# EAGLE library part RREXTENSION-MALE (library RoboRioConnector)
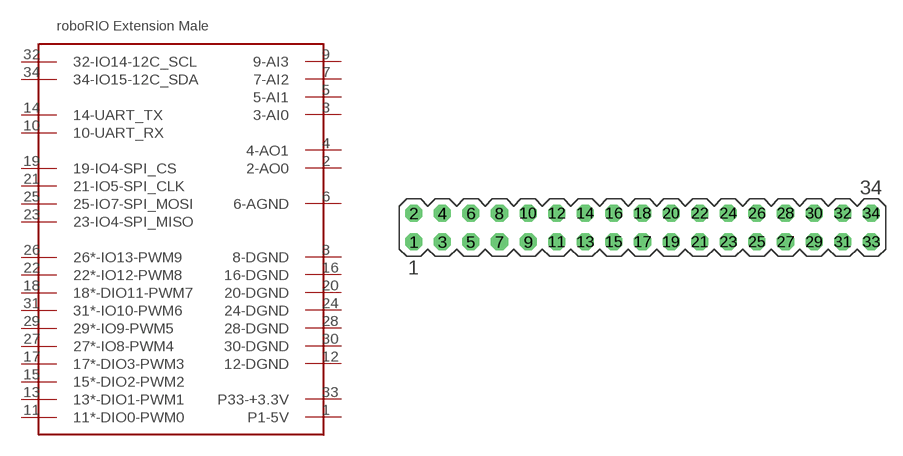
[diagram p1: symbol with the pads of RREXT-MALE; footprint RREXT-MALE]

Designator prefix -

## RREXTENSION-MALE  [RREXT-MALE]
1  P1-5V
2  2-AO0
3  3-AI0
4  4-AO1
5  5-AI1
6  6-AGND
7  7-AI2
8  8-DGND
9  9-AI3
10  10-UART_RX
11  11*-DIO0-PWM0
12  12-DGND
13  13*-DIO1-PWM1
14  14-UART_TX
15  15*-DIO2-PWM2
16  16-DGND
17  17*-DIO3-PWM3
18  18*-DIO11-PWM7
19  19-IO4-SPI_CS
20  20-DGND
21  21-IO5-SPI_CLK
22  22*-IO12-PWM8
23  23-IO4-SPI_MISO
24  24-DGND
25  25-IO7-SPI_MOSI
26  26*-IO13-PWM9
27  27*-IO8-PWM4
28  28-DGND
29  29*-IO9-PWM5
30  30-DGND
31  31*-IO10-PWM6
32  32-IO14-12C_SCL
33  P33-+3.3V
34  34-IO15-12C_SDA

## Footprint RREXT-MALE (pad centres in mm)
PIN HEADER
drill 1.016 octagon: 1 -20.32,-1.27; 2 -20.32,1.27; 3 -17.78,-1.27; 4 -17.78,1.27; 5 -15.24,-1.27; 6 -15.24,1.27; 7 -12.7,-1.27; 8 -12.7,1.27; 9 -10.16,-1.27; 10 -10.16,1.27; 11 -7.62,-1.27; 12 -7.62,1.27; 13 -5.08,-1.27; 14 -5.08,1.27; 15 -2.54,-1.27; 16 -2.54,1.27; 17 0,-1.27; 18 0,1.27; 19 2.54,-1.27; 20 2.54,1.27; 21 5.08,-1.27; 22 5.08,1.27; 23 7.62,-1.27; 24 7.62,1.27; 25 10.16,-1.27; 26 10.16,1.27; 27 12.7,-1.27; 28 12.7,1.27; 29 15.24,-1.27; 30 15.24,1.27; 31 17.78,-1.27; 32 17.78,1.27; 33 20.32,-1.27; 34 20.32,1.27